# EAGLE library part TPS61030 (library Library)
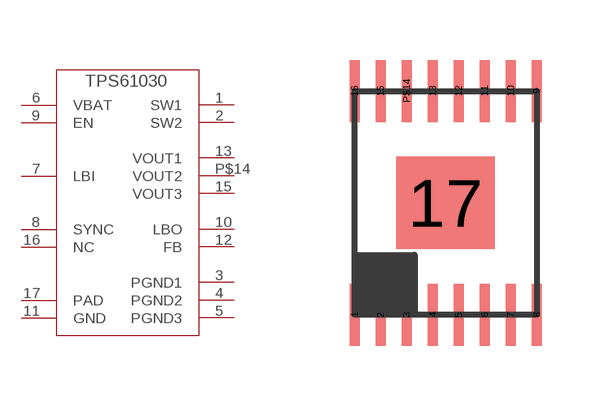
[diagram p3: symbol with the pads of TPS61030; footprint TPS61030]

Designator prefix -

## TPS61030  [TPS61030]
1  SW1
2  SW2
3  PGND1
4  PGND2
5  PGND3
6  VBAT
7  LBI
8  SYNC
9  EN
10  LBO
11  GND
12  FB
13  VOUT1
15  VOUT3
16  NC
17  PAD
P$14  VOUT2

## Footprint TPS61030 (pad centres in mm)
smd 0.25 x 1.55: 1 0,0; 2 0.65,-0.01; 3 1.3,0; 4 1.95,0; 5 2.6,0; 6 3.25,0; 7 3.9,0; 8 4.55,0; 9 4.55,5.6; 10 3.9,5.6; 11 3.25,5.6; 12 2.6,5.6; 13 1.95,5.6; 15 0.65,5.6; 16 0,5.6; P$14 1.3,5.6
smd 2.46 x 2.31: 17 2.275,2.8